# EAGLE library part 692622030100 (library WR-USB)
WR-USB Mini/Micro Connectors Characteristics Mini and Micro form factors, ideal for space-constrained designs Pin configuration: 5 pins for USB 2.0 / 10 pins for USB 3.x Designed for high cycle durability UL, TID listing for USB standards Applications Mobile and handheld devices Wearables and portable accessories Embedded systems and IoT modules Details see: www.we-online.com/en/components/products/INPUT_OUTPUT_WR_USB_STANDARD Updated by Ella 2024-05-21 2024 (C) Würth Elektronik
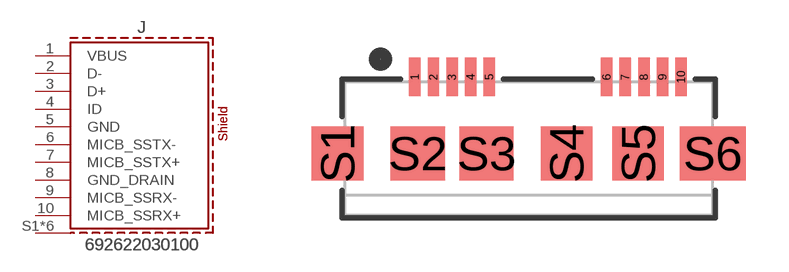
[diagram p24: symbol with the pads of 692622030100; footprint 692622030100]

Designator prefix J

## 692622030100 (APPLICATION: Micro USB 3.0; DATASHEET: https://www.we-online.com/redexpert/spec/692622030100?ae; GERDER: Receptacle; INTERFACE-TYPE: Type B; IR: 1.8 A; MOUNT: SMT; PACKAGING: Tape and Reel; PART-NUMBER: 692622030100; PINS: 10pcs; TYPE: Horizontal; VALUE: 692622030100; WORKING-VOLTAGE: 30 V (AC))  [692622030100]
1  VBUS  pas
2  D-  pas
3  D+  pas
4  ID  pas
5  GND  pas
6  MICB_SSTX-  pas
7  MICB_SSTX+  pas
8  GND_DRAIN  pas
9  MICB_SSRX-  pas
10  MICB_SSRX+  pas
S1  SHIELD  pas
S2  SHIELD  pas
S3  SHIELD  pas
S4  SHIELD  pas
S5  SHIELD  pas
S6  SHIELD  pas

## Footprint 692622030100 (pad centres in mm)
WR-USB Mini/Micro Connectors Micro USB 3.0, Type B, Horizontal SMT, 10Pins
smd 0.4 x 1.35: 1 -1.3,2.675; 2 -0.65,2.675; 3 0,2.675; 4 0.65,2.675; 5 1.3,2.675; 6 5.4,2.675; 7 6.05,2.675; 8 6.7,2.675; 9 7.35,2.675; 10 8,2.675
smd 1.8 x 1.9: S1 -4,0; S4 4,0; S5 6.5,0
smd 1.9 x 1.9: S2 -1.2,0; S3 1.2,0
smd 2.3 x 1.9: S6 9.1,0